# Altium schematic symbol library Fixed_Inductor_Sch.SchLib: 14 symbols
Pins are listed as number, name and electrical type; pins without a type are passive.

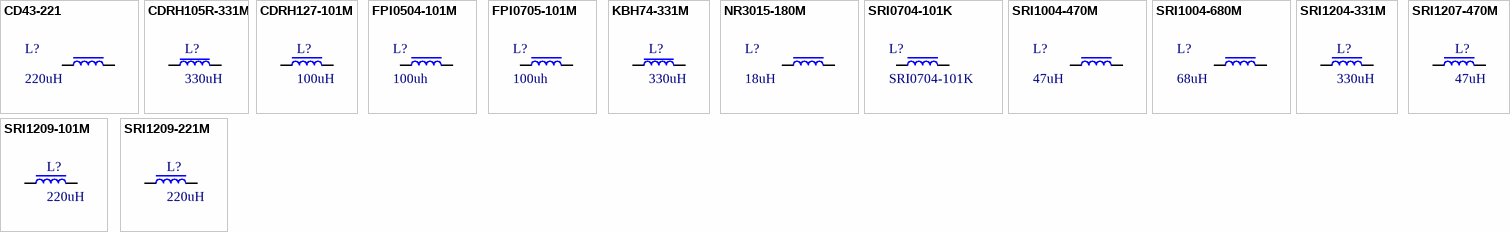
[diagram p0: symbols CD43-221 to SRI1209-221M]

## CD43-221
designator L?, comment 220uH
INDUCTOR POWER 220UH SMD; Current: 290mA; DCR: 2.9R; Tolerance: 20%; Inductance: 220uH; ComponentLink1Description: Link; ComponentLink1URL: https://www.ozdisan.com/pasif-komponentler/induktorler/sabit-induktorler/KCD43-221M/606728; Dimensions: 4.5X4.X3.5
footprint 4.5X4.0X3.5
pins: 1, 2

## CDRH105R-331M
designator L?, comment 330uH
330uh 750mA Shielded Fixed inductor COREMASTER; DCR: 750; Tolerance: 20%; Inductance: 330uH; Current: 750mA; Dimensions: 10.20x10.00x5.00; ComponentLink1Description: Link; ComponentLink1URL: https://ozdisan.com/passive-components/inductors/fixed-inductors/SRI1204-331M
footprint CDRH105R-10X10.2X5 (CDRH105R-330uh fixed indc. pcb footprint)
footprint Model Name (Footprint not found)
pins: 1, 2

## CDRH127-101M
designator L?, comment 100uH
330uh 1A Shielded Fixed inductor COREMASTER; Current: 3.28A; DCR: 170m; Tolerance: 20%; Inductance: 100uH; Dimensions: 12x12x8; ComponentLink1Description: Link; ComponentLink1URL: https://ozdisan.com/passive-components/inductors/fixed-inductors/SRI1204-331M
footprint WE-PD_1245 (SMT Shielded Power Inductor, 2-leads, body 12x12mm)
pins: 1, 2

## FPI0504-101M
designator L?, comment 100uh
100uh 700mA Fixed inductor; DCR: 700mR; Tolerance: 20%; Inductance: 100uh; Current: 700mA; Dimensions: 5.8X5.2X4.5mm; ComponentLink1Description: Link; ComponentLink1URL: https://ozdisan.com/pasif-komponentler/induktorler/sabit-induktorler/FPI0504-101M/513316
footprint WE-PD2_5848 (SMD Power Inductor, 2-Leads, body 5.8x5.2mm)
pins: 1, 2

## FPI0705-101M
designator L?, comment 100uh
100uh 1.2A Fixed inductor; DCR: 430m; Tolerance: 20%; Inductance: 100uh; Current: 1.2A; Dimensions: 7.80x7.00x5.00; ComponentLink1Description: Link; ComponentLink1URL: https://ozdisan.com/passive-components/inductors/fixed-inductors/FPI0705-101M
footprint FPI0705-101M
pins: 1, 2

## KBH74-331M
designator L?, comment 330uH
330uh 500mA Shielded Fixed inductor; DCR: 750; Tolerance: 20%; Inductance: 330uH; Current: 500mA; Dimensions: 7.30x7.30x4.50; ComponentLink1Description: Link; ComponentLink1URL: https://ozdisan.com/passive-components/inductors/fixed-inductors/SRI1204-331M
footprint KBH74-331M
pins: 1, 2

## NR3015-180M
designator L?, comment 18uH
INDUCTOR FIXED 18UH 3X3X1.5MM SMD; Current: 620mA; DCR: 0.559R; Tolerance: 20%; Inductance: 18uH; ComponentLink1Description: Link; ComponentLink1URL: https://ozdisan.com/passive-components/inductors/fixed-inductors/NR3015-180M/651759; Dimensions: 3.0X3.0X1.5
footprint 3.0X3.0X1.5
pins: 1, 2

## SRI0704-101K
designator L?
SHIELDED SMD POWER INDUCTORS 100UH 7.3X7.3X4.5MM SMD; Current: 850mA; DCR: 610mR; Tolerance: 10%; Inductance: 100uH; Dimensions: 7.30X7.30X4.5mm; ComponentLink1Description: Link; ComponentLink1URL: https://ozdisan.com/pasif-komponentler/induktorler/sabit-induktorler/SRI0704-101K/496650
footprint 7.3x7.3x4.5mm
pins: 1, 2

## SRI1004-470M
designator L?, comment 47uH
INDUCTOR POWER 47UH 10X10X4.5MM SMD; Current: 2A; DCR: 230m; Tolerance: 20%; Inductance: 47uH; Dimensions: 10x10x4.5mm; ComponentLink1Description: Link; ComponentLink1URL: https://ozdisan.com/passive-components/inductors/fixed-inductors/SRI1004-470M/508893
footprint INDP100100X45N (Precision Wire Wound Inductor, 2-Leads, Body 10.00x10.00mm, IPC Medium Density)
pins: 1, 2

## SRI1004-680M
designator L?, comment 68uH
INDUCTOR POWER 68UH 10X10X4.5MM SMD; Current: 1.7A; DCR: 300m; Tolerance: 20%; Inductance: 68uH; ComponentLink1Description: Link; ComponentLink1URL: https://ozdisan.com/passive-components/inductors/fixed-inductors/SRI1004-680M/508894; Dimensions: 10x10x4.5mm
footprint INDP100100X45N (Precision Wire Wound Inductor, 2-Leads, Body 10.00x10.00mm, IPC Medium Density)
pins: 1, 2

## SRI1204-331M
designator L?, comment 330uH
330uh 1A Shielded Fixed inductor COREMASTER; DCR: 800m; Tolerance: 20%; Inductance: 330uH; Current: 1A; Dimensions: 12x12x5; ComponentLink1Description: Link; ComponentLink1URL: https://ozdisan.com/passive-components/inductors/fixed-inductors/SRI1204-331M
footprint WE-PD_1245 (SMT Shielded Power Inductor, 2-leads, body 12x12mm)
pins: 1, 2

## SRI1207-470M
designator L?, comment 47uH
INDUCTOR POWER 220UH 12X12X8MM SMD; Current: 4.3A; DCR: 100mR; Tolerance: %20; Inductance: 47uH; Dimensions: 12x12x8mm; ComponentLink1Description: Link; ComponentLink1URL: https://ozdisan.com/passive-components/inductors/fixed-inductors/SRI1207-470M/531398
footprint WURTH WE-PD 1280 (SMT Shielded Power Inductor, 2-leads, body 12x12mm)
pins: 1, 2

## SRI1209-101M
designator L?, comment 220uH
INDUCTOR POWER 100UH 12X12X10MM SMD; Current: 3.2A; DCR: 135mR; Tolerance: %20; Inductance: 220uH; Dimensions: 12x12x10mm; ComponentLink1Description: Link; ComponentLink1URL: https://ozdisan.com/passive-components/inductors/fixed-inductors/SRI1209-101M/530620
footprint WE-PD_1245 (SMT Shielded Power Inductor, 2-leads, body 12x12mm)
pins: 1, 2

## SRI1209-221M
designator L?, comment 220uH
INDUCTOR POWER 220UH 12X12X10MM SMD; Current: 2.2A; DCR: 300mR; Tolerance: %20; Inductance: 220uH; Dimensions: 12x12x10mm; ComponentLink1Description: Link; ComponentLink1URL: https://ozdisan.com/passive-components/inductors/fixed-inductors/SRI1209-221M/487967
footprint WE-PD_1245 (SMT Shielded Power Inductor, 2-leads, body 12x12mm)
pins: 1, 2